# Altium footprint library Altera.PcbLib: 6 footprints (part 2 of 6)
Each footprint in its own frame and in the unit in brackets; x right, y up, seen from the top. Pads: shape width x height; smd on the part's side, far side on the other; paste and mask are expansions set on the pad; w line width, h text height; cw(c..) or ccw(c..) is an arc to the next point about the centre after c.
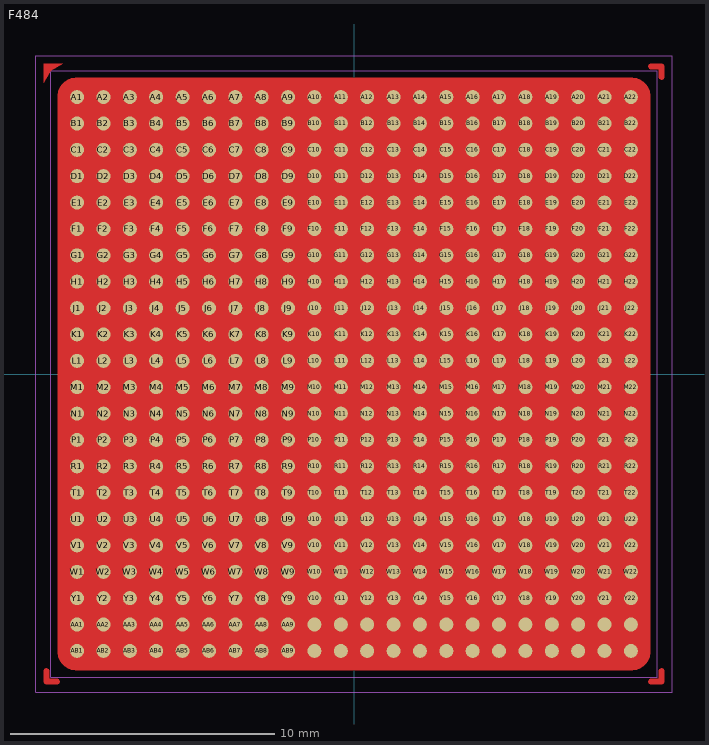
[diagram p1: the footprint, top view; thin cyan lines are the x and y axes]

## F484 [mil]
pads (484):
  round 21 smd mask+2: A1(-413.39,413.39) A2(-374.02,413.39) A3(-334.65,413.39) A4(-295.28,413.39) A5(-255.91,413.39) A6(-216.54,413.39) A7(-177.17,413.39) A8(-137.8,413.39) A9(-98.43,413.39) A10(-59.06,413.39) A11(-19.68,413.39) A12(19.69,413.39) A13(59.06,413.39) A14(98.43,413.39) A15(137.8,413.39) A16(177.17,413.39) A17(216.54,413.39) A18(255.91,413.39) A19(295.28,413.39) A20(334.65,413.39) A21(374.02,413.39) A22(413.39,413.39) AA1(-413.39,-374.02) AA2(-374.02,-374.02) AA3(-334.65,-374.02) AA4(-295.28,-374.02) AA5(-255.91,-374.02) AA6(-216.54,-374.02) AA7(-177.17,-374.02) AA8(-137.8,-374.02) AA9(-98.43,-374.02) AA10(-59.06,-374.02) AA11(-19.68,-374.02) AA12(19.69,-374.02) AA13(59.06,-374.02) AA14(98.43,-374.02) AA15(137.8,-374.02) AA16(177.17,-374.02) AA17(216.54,-374.02) AA18(255.91,-374.02) AA19(295.28,-374.02) AA20(334.65,-374.02) AA21(374.02,-374.02) AA22(413.39,-374.02) AB1(-413.39,-413.39) AB2(-374.02,-413.39) AB3(-334.65,-413.39) AB4(-295.28,-413.39) AB5(-255.91,-413.39) AB6(-216.54,-413.39) AB7(-177.17,-413.39) AB8(-137.8,-413.39) AB9(-98.43,-413.39) AB10(-59.06,-413.39) AB11(-19.68,-413.39) AB12(19.69,-413.39) AB13(59.06,-413.39) AB14(98.43,-413.39) AB15(137.8,-413.39) AB16(177.17,-413.39) AB17(216.54,-413.39) AB18(255.91,-413.39) AB19(295.28,-413.39) AB20(334.65,-413.39) AB21(374.02,-413.39) AB22(413.39,-413.39) B1(-413.39,374.02) B2(-374.02,374.02) B3(-334.65,374.02) B4(-295.28,374.02) B5(-255.91,374.02) B6(-216.54,374.02) B7(-177.17,374.02) B8(-137.8,374.02) B9(-98.43,374.02) B10(-59.06,374.02) B11(-19.68,374.02) B12(19.69,374.02) B13(59.06,374.02) B14(98.43,374.02) B15(137.8,374.02) B16(177.17,374.02) B17(216.54,374.02) B18(255.91,374.02) B19(295.28,374.02) B20(334.65,374.02) B21(374.02,374.02) B22(413.39,374.02) C1(-413.39,334.65) C2(-374.02,334.65) C3(-334.65,334.65) C4(-295.28,334.65) C5(-255.91,334.65) C6(-216.54,334.65) C7(-177.17,334.65) C8(-137.8,334.65) C9(-98.43,334.65) C10(-59.06,334.65) C11(-19.68,334.65) C12(19.69,334.65) C13(59.06,334.65) C14(98.43,334.65) C15(137.8,334.65) C16(177.17,334.65) C17(216.54,334.65) C18(255.91,334.65) C19(295.28,334.65) C20(334.65,334.65) C21(374.02,334.65) C22(413.39,334.65) D1(-413.39,295.28) D2(-374.02,295.28) D3(-334.65,295.28) D4(-295.28,295.28) D5(-255.91,295.28) D6(-216.54,295.28) D7(-177.17,295.28) D8(-137.8,295.28) D9(-98.43,295.28) D10(-59.06,295.28) D11(-19.68,295.28) D12(19.69,295.28) D13(59.06,295.28) D14(98.43,295.28) D15(137.8,295.28) D16(177.17,295.28) D17(216.54,295.28) D18(255.91,295.28) D19(295.28,295.28) D20(334.65,295.28) D21(374.02,295.28) D22(413.39,295.28) E1(-413.39,255.91) E2(-374.02,255.91) E3(-334.65,255.91) E4(-295.28,255.91) E5(-255.91,255.91) E6(-216.54,255.91) E7(-177.17,255.91) E8(-137.8,255.91) E9(-98.43,255.91) E10(-59.06,255.91) E11(-19.68,255.91) E12(19.69,255.91) E13(59.06,255.91) E14(98.43,255.91) E15(137.8,255.91) E16(177.17,255.91) E17(216.54,255.91) E18(255.91,255.91) E19(295.28,255.91) E20(334.65,255.91) E21(374.02,255.91) E22(413.39,255.91) F1(-413.39,216.54) F2(-374.02,216.54) F3(-334.65,216.54) F4(-295.28,216.54) F5(-255.91,216.54) F6(-216.54,216.54) F7(-177.17,216.54) F8(-137.8,216.54) F9(-98.43,216.54) F10(-59.06,216.54) F11(-19.68,216.54) F12(19.69,216.54) F13(59.06,216.54) F14(98.43,216.54) F15(137.8,216.54) F16(177.17,216.54) F17(216.54,216.54) F18(255.91,216.54) F19(295.28,216.54) F20(334.65,216.54) F21(374.02,216.54) F22(413.39,216.54) G1(-413.39,177.17) G2(-374.02,177.17) G3(-334.65,177.17) G4(-295.28,177.17) G5(-255.91,177.17) G6(-216.54,177.17) G7(-177.17,177.17) G8(-137.8,177.17) G9(-98.43,177.17) G10(-59.06,177.17) G11(-19.68,177.17) G12(19.69,177.17) G13(59.06,177.17) G14(98.43,177.17) G15(137.8,177.17) G16(177.17,177.17) G17(216.54,177.17) G18(255.91,177.17) G19(295.28,177.17) G20(334.65,177.17) G21(374.02,177.17) G22(413.39,177.17) H1(-413.39,137.8) H2(-374.02,137.8) H3(-334.65,137.8) H4(-295.28,137.8) H5(-255.91,137.8) H6(-216.54,137.8) H7(-177.17,137.8) H8(-137.8,137.8) H9(-98.43,137.8) H10(-59.06,137.8) H11(-19.68,137.8) H12(19.69,137.8) H13(59.06,137.8) H14(98.43,137.8) H15(137.8,137.8) H16(177.17,137.8) H17(216.54,137.8) H18(255.91,137.8) H19(295.28,137.8) H20(334.65,137.8) H21(374.02,137.8) H22(413.39,137.8) J1(-413.39,98.43) J2(-374.02,98.43) J3(-334.65,98.43) J4(-295.28,98.43) J5(-255.91,98.43) J6(-216.54,98.43) J7(-177.17,98.43) J8(-137.8,98.43) J9(-98.43,98.43) J10(-59.06,98.43) J11(-19.68,98.43) J12(19.69,98.43) J13(59.06,98.43) J14(98.43,98.43) J15(137.8,98.43) J16(177.17,98.43) J17(216.54,98.43) J18(255.91,98.43) J19(295.28,98.43) J20(334.65,98.43) J21(374.02,98.43) J22(413.39,98.43) K1(-413.39,59.06) K2(-374.02,59.06) K3(-334.65,59.06) K4(-295.28,59.06) K5(-255.91,59.06) K6(-216.54,59.06) K7(-177.17,59.06) K8(-137.8,59.06) K9(-98.43,59.06) K10(-59.06,59.06) K11(-19.68,59.06) K12(19.69,59.06) K13(59.06,59.06) K14(98.43,59.06) K15(137.8,59.06) K16(177.17,59.06) K17(216.54,59.06) K18(255.91,59.06) K19(295.28,59.06) K20(334.65,59.06) K21(374.02,59.06) K22(413.39,59.06) L1(-413.39,19.69) L2(-374.02,19.69) L3(-334.65,19.69) L4(-295.28,19.69) L5(-255.91,19.69) L6(-216.54,19.69) L7(-177.17,19.69) L8(-137.8,19.69) L9(-98.43,19.69) L10(-59.06,19.69) L11(-19.68,19.69) L12(19.69,19.69) L13(59.06,19.69) L14(98.43,19.69) L15(137.8,19.69) L16(177.17,19.69) L17(216.54,19.69) L18(255.91,19.69) L19(295.28,19.69) L20(334.65,19.69) L21(374.02,19.69) L22(413.39,19.69) M1(-413.39,-19.68) M2(-374.02,-19.68) M3(-334.65,-19.68) M4(-295.28,-19.68) M5(-255.91,-19.68) M6(-216.54,-19.68) M7(-177.17,-19.68) M8(-137.8,-19.68) M9(-98.43,-19.68) M10(-59.06,-19.68) M11(-19.68,-19.68) M12(19.69,-19.68) M13(59.06,-19.68) M14(98.43,-19.68) M15(137.8,-19.68) M16(177.17,-19.68) M17(216.54,-19.68) M18(255.91,-19.68) M19(295.28,-19.68) M20(334.65,-19.68) M21(374.02,-19.68) M22(413.39,-19.68) N1(-413.39,-59.06) N2(-374.02,-59.06) N3(-334.65,-59.06) N4(-295.28,-59.06) N5(-255.91,-59.06) N6(-216.54,-59.06) N7(-177.17,-59.06) N8(-137.8,-59.06) N9(-98.43,-59.06) N10(-59.06,-59.06) N11(-19.68,-59.06) N12(19.69,-59.06) N13(59.06,-59.06) N14(98.43,-59.06) N15(137.8,-59.06) N16(177.17,-59.06) N17(216.54,-59.06) N18(255.91,-59.06) N19(295.28,-59.06) N20(334.65,-59.06) N21(374.02,-59.06) N22(413.39,-59.06) P1(-413.39,-98.43) P2(-374.02,-98.43) P3(-334.65,-98.43) P4(-295.28,-98.43) P5(-255.91,-98.43) P6(-216.54,-98.43) P7(-177.17,-98.43) P8(-137.8,-98.43) P9(-98.43,-98.43) P10(-59.06,-98.43) P11(-19.68,-98.43) P12(19.69,-98.43) P13(59.06,-98.43) P14(98.43,-98.43) P15(137.8,-98.43) P16(177.17,-98.43) P17(216.54,-98.43) P18(255.91,-98.43) P19(295.28,-98.43) P20(334.65,-98.43) P21(374.02,-98.43) P22(413.39,-98.43) R1(-413.39,-137.8) R2(-374.02,-137.8) R3(-334.65,-137.8) R4(-295.28,-137.8) R5(-255.91,-137.8) R6(-216.54,-137.8) R7(-177.17,-137.8) R8(-137.8,-137.8) R9(-98.43,-137.8) R10(-59.06,-137.8) R11(-19.68,-137.8) R12(19.69,-137.8) R13(59.06,-137.8) R14(98.43,-137.8) R15(137.8,-137.8) R16(177.17,-137.8) R17(216.54,-137.8) R18(255.91,-137.8) R19(295.28,-137.8) R20(334.65,-137.8) R21(374.02,-137.8) R22(413.39,-137.8) T1(-413.39,-177.17) T2(-374.02,-177.17) T3(-334.65,-177.17) T4(-295.28,-177.17) T5(-255.91,-177.17) T6(-216.54,-177.17) T7(-177.17,-177.17) T8(-137.8,-177.17) T9(-98.43,-177.17) T10(-59.06,-177.17) T11(-19.68,-177.17) T12(19.69,-177.17) T13(59.06,-177.17) T14(98.43,-177.17) T15(137.8,-177.17) T16(177.17,-177.17) T17(216.54,-177.17) T18(255.91,-177.17) T19(295.28,-177.17) T20(334.65,-177.17) T21(374.02,-177.17) T22(413.39,-177.17) U1(-413.39,-216.54) U2(-374.02,-216.54) U3(-334.65,-216.54) U4(-295.28,-216.54) U5(-255.91,-216.54) U6(-216.54,-216.54) U7(-177.17,-216.54) U8(-137.8,-216.54) U9(-98.43,-216.54) U10(-59.06,-216.54) U11(-19.68,-216.54) U12(19.69,-216.54) U13(59.06,-216.54) U14(98.43,-216.54) U15(137.8,-216.54) U16(177.17,-216.54) U17(216.54,-216.54) U18(255.91,-216.54) U19(295.28,-216.54) U20(334.65,-216.54) U21(374.02,-216.54) U22(413.39,-216.54) V1(-413.39,-255.91) V2(-374.02,-255.91) V3(-334.65,-255.91) V4(-295.28,-255.91) V5(-255.91,-255.91) V6(-216.54,-255.91) V7(-177.17,-255.91) V8(-137.8,-255.91) V9(-98.43,-255.91) V10(-59.06,-255.91) V11(-19.68,-255.91) V12(19.69,-255.91) V13(59.06,-255.91) V14(98.43,-255.91) V15(137.8,-255.91) V16(177.17,-255.91) V17(216.54,-255.91) V18(255.91,-255.91) V19(295.28,-255.91) V20(334.65,-255.91) V21(374.02,-255.91) V22(413.39,-255.91) W1(-413.39,-295.28) W2(-374.02,-295.28) W3(-334.65,-295.28) W4(-295.28,-295.28) W5(-255.91,-295.28) W6(-216.54,-295.28) W7(-177.17,-295.28) W8(-137.8,-295.28) W9(-98.43,-295.28) W10(-59.06,-295.28) W11(-19.68,-295.28) W12(19.69,-295.28) W13(59.06,-295.28) W14(98.43,-295.28) W15(137.8,-295.28) W16(177.17,-295.28) W17(216.54,-295.28) W18(255.91,-295.28) W19(295.28,-295.28) W20(334.65,-295.28) W21(374.02,-295.28) W22(413.39,-295.28) Y1(-413.39,-334.65) Y2(-374.02,-334.65) Y3(-334.65,-334.65) Y4(-295.28,-334.65) Y5(-255.91,-334.65) Y6(-216.54,-334.65) Y7(-177.17,-334.65) Y8(-137.8,-334.65) Y9(-98.43,-334.65) Y10(-59.06,-334.65) Y11(-19.68,-334.65) Y12(19.69,-334.65) Y13(59.06,-334.65) Y14(98.43,-334.65) Y15(137.8,-334.65) Y16(177.17,-334.65) Y17(216.54,-334.65) Y18(255.91,-334.65) Y19(295.28,-334.65) Y20(334.65,-334.65) Y21(374.02,-334.65) Y22(413.39,-334.65)
Top Layer:
  pour cut-out: 413.39,442.52 -413.39,442.52 -416.26,442.52 -421.88,441.4 -427.19,439.2 -431.96,436.02 -436.02,431.96 -439.2,427.19 -441.4,421.88 -442.52,416.26 -442.52,413.39 -442.52,-413.48 -442.52,-416.34 -441.4,-421.95 -439.21,-427.24 -436.04,-431.99 -431.99,-436.04 -427.24,-439.21 -421.95,-441.4 -416.34,-442.52 -413.48,-442.52 413.39,-442.52 416.26,-442.52 421.88,-441.4 427.19,-439.2 431.96,-436.02 436.02,-431.96 439.2,-427.19 441.4,-421.88 442.52,-416.26 442.52,-413.39 442.52,413.39 442.52,416.26 441.4,421.88 439.2,427.19 436.02,431.96 431.96,436.02 427.19,439.2 421.88,441.4 416.26,442.52
  region: 455.22,443.22 455.22,442.42 455.83,440.95 456.95,439.83 458.42,439.22 459.22,439.22 460.02,439.22 461.49,439.83 462.61,440.95 463.22,442.42 463.22,443.22 463.22,459.22 463.22,460.02 462.61,461.49 461.49,462.61 460.02,463.22 459.22,463.22 443.22,463.22 442.42,463.22 440.95,462.61 439.83,461.49 439.22,460.02 439.22,459.22 439.22,458.42 439.83,456.95 440.95,455.83 442.42,455.22 443.22,455.22 453.22,455.22 453.61,455.18 454.33,454.88 454.88,454.33 455.18,453.61 455.22,453.22
  region: -455.22,-443.22 -455.22,-442.42 -455.83,-440.95 -456.95,-439.83 -458.42,-439.22 -459.22,-439.22 -460.02,-439.22 -461.49,-439.83 -462.61,-440.95 -463.22,-442.42 -463.22,-443.22 -463.22,-459.22 -463.22,-460.02 -462.61,-461.49 -461.49,-462.61 -460.02,-463.22 -459.22,-463.22 -443.22,-463.22 -442.42,-463.22 -440.95,-462.61 -439.83,-461.49 -439.22,-460.02 -439.22,-459.22 -439.22,-458.42 -439.83,-456.95 -440.95,-455.83 -442.42,-455.22 -443.22,-455.22 -453.22,-455.22 -453.61,-455.18 -454.33,-454.88 -454.88,-454.33 -455.18,-453.61 -455.22,-453.22
  region: 443.22,-455.22 442.42,-455.22 440.95,-455.83 439.83,-456.95 439.22,-458.42 439.22,-459.22 439.22,-460.02 439.83,-461.49 440.95,-462.61 442.42,-463.22 443.22,-463.22 459.22,-463.22 460.02,-463.22 461.49,-462.61 462.61,-461.49 463.22,-460.02 463.22,-459.22 463.22,-443.22 463.22,-442.42 462.61,-440.95 461.49,-439.83 460.02,-439.22 459.22,-439.22 458.42,-439.22 456.95,-439.83 455.83,-440.95 455.22,-442.42 455.22,-443.22 455.22,-453.22 455.18,-453.61 454.88,-454.33 454.33,-454.88 453.61,-455.18 453.22,-455.22
  region: -463.22,463.22 -463.22,434.68 -452.76,452.76 -434.68,463.22
Top Designator:
  text ".Designator" at -127.64,-12.5 h35
Top Courtyard:
  lines w1: -475,-475 -475,475 475,475 475,-475 -475,-475
Top Component Outline:
  lines w1: -425.19,-385.74 -385.82,-425.11 ; -425.11,385.82 -385.74,425.19 ; 385.74,-425.19 425.11,-385.82 ; 385.82,425.11 425.19,385.74 ; -452.76,-452.76 -452.76,452.76 452.76,452.76 452.76,-452.76 -452.76,-452.76
3D body: height 21.81, standoff -1.81, extent 401.66,-425.19 425.11,-401.57
3D body: height 21.81, standoff -1.81, extent 362.29,-425.19 385.74,-401.57
3D body: height 21.81, standoff -1.81, extent 322.92,-425.19 346.37,-401.57
3D body: height 21.81, standoff -1.81, extent 283.55,-425.19 307,-401.57
3D body: height 21.81, standoff -1.81, extent 244.18,-425.19 267.63,-401.57
3D body: height 21.81, standoff -1.81, extent 204.81,-425.19 228.26,-401.57
3D body: height 21.81, standoff -1.81, extent 165.44,-425.19 188.89,-401.57
3D body: height 21.81, standoff -1.81, extent 126.07,-425.19 149.52,-401.57
3D body: height 21.81, standoff -1.81, extent 86.7,-425.19 110.15,-401.57
3D body: height 21.81, standoff -1.81, extent 47.33,-425.19 70.78,-401.57
3D body: height 21.81, standoff -1.81, extent 7.96,-425.19 31.41,-401.57
3D body: height 21.81, standoff -1.81, extent -31.41,-425.19 -7.96,-401.57
3D body: height 21.81, standoff -1.81, extent -70.78,-425.19 -47.33,-401.57
3D body: height 21.81, standoff -1.81, extent -110.15,-425.19 -86.7,-401.57
3D body: height 21.81, standoff -1.81, extent -149.52,-425.19 -126.07,-401.57
3D body: height 21.81, standoff -1.81, extent -188.89,-425.19 -165.44,-401.57
3D body: height 21.81, standoff -1.81, extent -228.26,-425.19 -204.81,-401.57
3D body: height 21.81, standoff -1.81, extent -267.63,-425.19 -244.18,-401.57
3D body: height 21.81, standoff -1.81, extent -307,-425.19 -283.55,-401.57
3D body: height 21.81, standoff -1.81, extent -346.37,-425.19 -322.92,-401.57
3D body: height 21.81, standoff -1.81, extent -385.74,-425.19 -362.29,-401.57
3D body: height 21.81, standoff -1.81, extent -425.11,-425.19 -401.66,-401.57
3D body: height 21.81, standoff -1.81, extent 401.66,-385.82 425.11,-362.2
3D body: height 21.81, standoff -1.81, extent 362.29,-385.82 385.74,-362.2
3D body: height 21.81, standoff -1.81, extent 322.92,-385.82 346.37,-362.2
3D body: height 21.81, standoff -1.81, extent 283.55,-385.82 307,-362.2
3D body: height 21.81, standoff -1.81, extent 244.18,-385.82 267.63,-362.2
3D body: height 21.81, standoff -1.81, extent 204.81,-385.82 228.26,-362.2
3D body: height 21.81, standoff -1.81, extent 165.44,-385.82 188.89,-362.2
3D body: height 21.81, standoff -1.81, extent 126.07,-385.82 149.52,-362.2
3D body: height 21.81, standoff -1.81, extent 86.7,-385.82 110.15,-362.2
3D body: height 21.81, standoff -1.81, extent 47.33,-385.82 70.78,-362.2
3D body: height 21.81, standoff -1.81, extent 7.96,-385.82 31.41,-362.2
3D body: height 21.81, standoff -1.81, extent -31.41,-385.82 -7.96,-362.2
3D body: height 21.81, standoff -1.81, extent -70.78,-385.82 -47.33,-362.2
3D body: height 21.81, standoff -1.81, extent -110.15,-385.82 -86.7,-362.2
3D body: height 21.81, standoff -1.81, extent -149.52,-385.82 -126.07,-362.2
3D body: height 21.81, standoff -1.81, extent -188.89,-385.82 -165.44,-362.2
3D body: height 21.81, standoff -1.81, extent -228.26,-385.82 -204.81,-362.2
3D body: height 21.81, standoff -1.81, extent -267.63,-385.82 -244.18,-362.2
3D body: height 21.81, standoff -1.81, extent -307,-385.82 -283.55,-362.2
3D body: height 21.81, standoff -1.81, extent -346.37,-385.82 -322.92,-362.2
3D body: height 21.81, standoff -1.81, extent -385.74,-385.82 -362.29,-362.2
3D body: height 21.81, standoff -1.81, extent -425.11,-385.82 -401.66,-362.2
3D body: height 21.81, standoff -1.81, extent 401.66,-346.45 425.11,-322.83
3D body: height 21.81, standoff -1.81, extent 362.29,-346.45 385.74,-322.83
3D body: height 21.81, standoff -1.81, extent 322.92,-346.45 346.37,-322.83
3D body: height 21.81, standoff -1.81, extent 283.55,-346.45 307,-322.83
3D body: height 21.81, standoff -1.81, extent 244.18,-346.45 267.63,-322.83
3D body: height 21.81, standoff -1.81, extent 204.81,-346.45 228.26,-322.83
3D body: height 21.81, standoff -1.81, extent 165.44,-346.45 188.89,-322.83
3D body: height 21.81, standoff -1.81, extent 126.07,-346.45 149.52,-322.83
3D body: height 21.81, standoff -1.81, extent 86.7,-346.45 110.15,-322.83
3D body: height 21.81, standoff -1.81, extent 47.33,-346.45 70.78,-322.83
3D body: height 21.81, standoff -1.81, extent 7.96,-346.45 31.41,-322.83
3D body: height 21.81, standoff -1.81, extent -31.41,-346.45 -7.96,-322.83
3D body: height 21.81, standoff -1.81, extent -70.78,-346.45 -47.33,-322.83
3D body: height 21.81, standoff -1.81, extent -110.15,-346.45 -86.7,-322.83
3D body: height 21.81, standoff -1.81, extent -149.52,-346.45 -126.07,-322.83
3D body: height 21.81, standoff -1.81, extent -188.89,-346.45 -165.44,-322.83
3D body: height 21.81, standoff -1.81, extent -228.26,-346.45 -204.81,-322.83
3D body: height 21.81, standoff -1.81, extent -267.63,-346.45 -244.18,-322.83
3D body: height 21.81, standoff -1.81, extent -307,-346.45 -283.55,-322.83
3D body: height 21.81, standoff -1.81, extent -346.37,-346.45 -322.92,-322.83
3D body: height 21.81, standoff -1.81, extent -385.74,-346.45 -362.29,-322.83
3D body: height 21.81, standoff -1.81, extent -425.11,-346.45 -401.66,-322.83
3D body: height 21.81, standoff -1.81, extent 401.66,-307.08 425.11,-283.46
3D body: height 21.81, standoff -1.81, extent 362.29,-307.08 385.74,-283.46
3D body: height 21.81, standoff -1.81, extent 322.92,-307.08 346.37,-283.46
3D body: height 21.81, standoff -1.81, extent 283.55,-307.08 307,-283.46
3D body: height 21.81, standoff -1.81, extent 244.18,-307.08 267.63,-283.46
3D body: height 21.81, standoff -1.81, extent 204.81,-307.08 228.26,-283.46
3D body: height 21.81, standoff -1.81, extent 165.44,-307.08 188.89,-283.46
3D body: height 21.81, standoff -1.81, extent 126.07,-307.08 149.52,-283.46
3D body: height 21.81, standoff -1.81, extent 86.7,-307.08 110.15,-283.46
3D body: height 21.81, standoff -1.81, extent 47.33,-307.08 70.78,-283.46
3D body: height 21.81, standoff -1.81, extent 7.96,-307.08 31.41,-283.46
3D body: height 21.81, standoff -1.81, extent -31.41,-307.08 -7.96,-283.46
3D body: height 21.81, standoff -1.81, extent -70.78,-307.08 -47.33,-283.46
3D body: height 21.81, standoff -1.81, extent -110.15,-307.08 -86.7,-283.46
3D body: height 21.81, standoff -1.81, extent -149.52,-307.08 -126.07,-283.46
3D body: height 21.81, standoff -1.81, extent -188.89,-307.08 -165.44,-283.46
3D body: height 21.81, standoff -1.81, extent -228.26,-307.08 -204.81,-283.46
3D body: height 21.81, standoff -1.81, extent -267.63,-307.08 -244.18,-283.46
3D body: height 21.81, standoff -1.81, extent -307,-307.08 -283.55,-283.46
3D body: height 21.81, standoff -1.81, extent -346.37,-307.08 -322.92,-283.46
3D body: height 21.81, standoff -1.81, extent -385.74,-307.08 -362.29,-283.46
3D body: height 21.81, standoff -1.81, extent -425.11,-307.08 -401.66,-283.46
3D body: height 21.81, standoff -1.81, extent 401.66,-267.71 425.11,-244.09
3D body: height 21.81, standoff -1.81, extent 362.29,-267.71 385.74,-244.09
3D body: height 21.81, standoff -1.81, extent 322.92,-267.71 346.37,-244.09
3D body: height 21.81, standoff -1.81, extent 283.55,-267.71 307,-244.09
3D body: height 21.81, standoff -1.81, extent 244.18,-267.71 267.63,-244.09
3D body: height 21.81, standoff -1.81, extent 204.81,-267.71 228.26,-244.09
3D body: height 21.81, standoff -1.81, extent 165.44,-267.71 188.89,-244.09
3D body: height 21.81, standoff -1.81, extent 126.07,-267.71 149.52,-244.09
3D body: height 21.81, standoff -1.81, extent 86.7,-267.71 110.15,-244.09
3D body: height 21.81, standoff -1.81, extent 47.33,-267.71 70.78,-244.09
3D body: height 21.81, standoff -1.81, extent 7.96,-267.71 31.41,-244.09
3D body: height 21.81, standoff -1.81, extent -31.41,-267.71 -7.96,-244.09
3D body: height 21.81, standoff -1.81, extent -70.78,-267.71 -47.33,-244.09
3D body: height 21.81, standoff -1.81, extent -110.15,-267.71 -86.7,-244.09
3D body: height 21.81, standoff -1.81, extent -149.52,-267.71 -126.07,-244.09
3D body: height 21.81, standoff -1.81, extent -188.89,-267.71 -165.44,-244.09
3D body: height 21.81, standoff -1.81, extent -228.26,-267.71 -204.81,-244.09
3D body: height 21.81, standoff -1.81, extent -267.63,-267.71 -244.18,-244.09
3D body: height 21.81, standoff -1.81, extent -307,-267.71 -283.55,-244.09
3D body: height 21.81, standoff -1.81, extent -346.37,-267.71 -322.92,-244.09
3D body: height 21.81, standoff -1.81, extent -385.74,-267.71 -362.29,-244.09
3D body: height 21.81, standoff -1.81, extent -425.11,-267.71 -401.66,-244.09
3D body: height 21.81, standoff -1.81, extent 401.66,-228.34 425.11,-204.72
3D body: height 21.81, standoff -1.81, extent 362.29,-228.34 385.74,-204.72
3D body: height 21.81, standoff -1.81, extent 322.92,-228.34 346.37,-204.72
3D body: height 21.81, standoff -1.81, extent 283.55,-228.34 307,-204.72
3D body: height 21.81, standoff -1.81, extent 244.18,-228.34 267.63,-204.72
3D body: height 21.81, standoff -1.81, extent 204.81,-228.34 228.26,-204.72
3D body: height 21.81, standoff -1.81, extent 165.44,-228.34 188.89,-204.72
3D body: height 21.81, standoff -1.81, extent 126.07,-228.34 149.52,-204.72
3D body: height 21.81, standoff -1.81, extent 86.7,-228.34 110.15,-204.72
3D body: height 21.81, standoff -1.81, extent 47.33,-228.34 70.78,-204.72
3D body: height 21.81, standoff -1.81, extent 7.96,-228.34 31.41,-204.72
3D body: height 21.81, standoff -1.81, extent -31.41,-228.34 -7.96,-204.72
3D body: height 21.81, standoff -1.81, extent -70.78,-228.34 -47.33,-204.72
3D body: height 21.81, standoff -1.81, extent -110.15,-228.34 -86.7,-204.72
3D body: height 21.81, standoff -1.81, extent -149.52,-228.34 -126.07,-204.72
3D body: height 21.81, standoff -1.81, extent -188.89,-228.34 -165.44,-204.72
3D body: height 21.81, standoff -1.81, extent -228.26,-228.34 -204.81,-204.72
3D body: height 21.81, standoff -1.81, extent -267.63,-228.34 -244.18,-204.72
3D body: height 21.81, standoff -1.81, extent -307,-228.34 -283.55,-204.72
3D body: height 21.81, standoff -1.81, extent -346.37,-228.34 -322.92,-204.72
3D body: height 21.81, standoff -1.81, extent -385.74,-228.34 -362.29,-204.72
3D body: height 21.81, standoff -1.81, extent -425.11,-228.34 -401.66,-204.72
3D body: height 21.81, standoff -1.81, extent 401.66,-188.97 425.11,-165.35
3D body: height 21.81, standoff -1.81, extent 362.29,-188.97 385.74,-165.35
3D body: height 21.81, standoff -1.81, extent 322.92,-188.97 346.37,-165.35
3D body: height 21.81, standoff -1.81, extent 283.55,-188.97 307,-165.35
3D body: height 21.81, standoff -1.81, extent 244.18,-188.97 267.63,-165.35
3D body: height 21.81, standoff -1.81, extent 204.81,-188.97 228.26,-165.35
3D body: height 21.81, standoff -1.81, extent 165.44,-188.97 188.89,-165.35
3D body: height 21.81, standoff -1.81, extent 126.07,-188.97 149.52,-165.35
3D body: height 21.81, standoff -1.81, extent 86.7,-188.97 110.15,-165.35
3D body: height 21.81, standoff -1.81, extent 47.33,-188.97 70.78,-165.35
3D body: height 21.81, standoff -1.81, extent 7.96,-188.97 31.41,-165.35
3D body: height 21.81, standoff -1.81, extent -31.41,-188.97 -7.96,-165.35
3D body: height 21.81, standoff -1.81, extent -70.78,-188.97 -47.33,-165.35
3D body: height 21.81, standoff -1.81, extent -110.15,-188.97 -86.7,-165.35
3D body: height 21.81, standoff -1.81, extent -149.52,-188.97 -126.07,-165.35
3D body: height 21.81, standoff -1.81, extent -188.89,-188.97 -165.44,-165.35
3D body: height 21.81, standoff -1.81, extent -228.26,-188.97 -204.81,-165.35
3D body: height 21.81, standoff -1.81, extent -267.63,-188.97 -244.18,-165.35
3D body: height 21.81, standoff -1.81, extent -307,-188.97 -283.55,-165.35
3D body: height 21.81, standoff -1.81, extent -346.37,-188.97 -322.92,-165.35
3D body: height 21.81, standoff -1.81, extent -385.74,-188.97 -362.29,-165.35
3D body: height 21.81, standoff -1.81, extent -425.11,-188.97 -401.66,-165.35
3D body: height 21.81, standoff -1.81, extent 401.66,-149.6 425.11,-125.98
3D body: height 21.81, standoff -1.81, extent 362.29,-149.6 385.74,-125.98
3D body: height 21.81, standoff -1.81, extent 322.92,-149.6 346.37,-125.98
3D body: height 21.81, standoff -1.81, extent 283.55,-149.6 307,-125.98
3D body: height 21.81, standoff -1.81, extent 244.18,-149.6 267.63,-125.98
3D body: height 21.81, standoff -1.81, extent 204.81,-149.6 228.26,-125.98
3D body: height 21.81, standoff -1.81, extent 165.44,-149.6 188.89,-125.98
3D body: height 21.81, standoff -1.81, extent 126.07,-149.6 149.52,-125.98
3D body: height 21.81, standoff -1.81, extent 86.7,-149.6 110.15,-125.98
3D body: height 21.81, standoff -1.81, extent 47.33,-149.6 70.78,-125.98
3D body: height 21.81, standoff -1.81, extent 7.96,-149.6 31.41,-125.98
3D body: height 21.81, standoff -1.81, extent -31.41,-149.6 -7.96,-125.98
3D body: height 21.81, standoff -1.81, extent -70.78,-149.6 -47.33,-125.98
3D body: height 21.81, standoff -1.81, extent -110.15,-149.6 -86.7,-125.98
3D body: height 21.81, standoff -1.81, extent -149.52,-149.6 -126.07,-125.98
3D body: height 21.81, standoff -1.81, extent -188.89,-149.6 -165.44,-125.98
3D body: height 21.81, standoff -1.81, extent -228.26,-149.6 -204.81,-125.98
3D body: height 21.81, standoff -1.81, extent -267.63,-149.6 -244.18,-125.98
3D body: height 21.81, standoff -1.81, extent -307,-149.6 -283.55,-125.98
3D body: height 21.81, standoff -1.81, extent -346.37,-149.6 -322.92,-125.98
3D body: height 21.81, standoff -1.81, extent -385.74,-149.6 -362.29,-125.98
3D body: height 21.81, standoff -1.81, extent -425.11,-149.6 -401.66,-125.98
3D body: height 21.81, standoff -1.81, extent 401.66,-110.23 425.11,-86.61
3D body: height 21.81, standoff -1.81, extent 362.29,-110.23 385.74,-86.61
3D body: height 21.81, standoff -1.81, extent 322.92,-110.23 346.37,-86.61
3D body: height 21.81, standoff -1.81, extent 283.55,-110.23 307,-86.61
3D body: height 21.81, standoff -1.81, extent 244.18,-110.23 267.63,-86.61
3D body: height 21.81, standoff -1.81, extent 204.81,-110.23 228.26,-86.61
3D body: height 21.81, standoff -1.81, extent 165.44,-110.23 188.89,-86.61
3D body: height 21.81, standoff -1.81, extent 126.07,-110.23 149.52,-86.61
3D body: height 21.81, standoff -1.81, extent 86.7,-110.23 110.15,-86.61
3D body: height 21.81, standoff -1.81, extent 47.33,-110.23 70.78,-86.61
3D body: height 21.81, standoff -1.81, extent 7.96,-110.23 31.41,-86.61
3D body: height 21.81, standoff -1.81, extent -31.41,-110.23 -7.96,-86.61
3D body: height 21.81, standoff -1.81, extent -70.78,-110.23 -47.33,-86.61
3D body: height 21.81, standoff -1.81, extent -110.15,-110.23 -86.7,-86.61
3D body: height 21.81, standoff -1.81, extent -149.52,-110.23 -126.07,-86.61
3D body: height 21.81, standoff -1.81, extent -188.89,-110.23 -165.44,-86.61
3D body: height 21.81, standoff -1.81, extent -228.26,-110.23 -204.81,-86.61
3D body: height 21.81, standoff -1.81, extent -267.63,-110.23 -244.18,-86.61
3D body: height 21.81, standoff -1.81, extent -307,-110.23 -283.55,-86.61
3D body: height 21.81, standoff -1.81, extent -346.37,-110.23 -322.92,-86.61
3D body: height 21.81, standoff -1.81, extent -385.74,-110.23 -362.29,-86.61
3D body: height 21.81, standoff -1.81, extent -425.11,-110.23 -401.66,-86.61
3D body: height 21.81, standoff -1.81, extent 401.66,-70.86 425.11,-47.24
3D body: height 21.81, standoff -1.81, extent 362.29,-70.86 385.74,-47.24
3D body: height 21.81, standoff -1.81, extent 322.92,-70.86 346.37,-47.24
3D body: height 21.81, standoff -1.81, extent 283.55,-70.86 307,-47.24
3D body: height 21.81, standoff -1.81, extent 244.18,-70.86 267.63,-47.24
3D body: height 21.81, standoff -1.81, extent 204.81,-70.86 228.26,-47.24
3D body: height 21.81, standoff -1.81, extent 165.44,-70.86 188.89,-47.24
3D body: height 21.81, standoff -1.81, extent 126.07,-70.86 149.52,-47.24
3D body: height 21.81, standoff -1.81, extent 86.7,-70.86 110.15,-47.24
3D body: height 21.81, standoff -1.81, extent 47.33,-70.86 70.78,-47.24
3D body: height 21.81, standoff -1.81, extent 7.96,-70.86 31.41,-47.24
3D body: height 21.81, standoff -1.81, extent -31.41,-70.86 -7.96,-47.24
3D body: height 21.81, standoff -1.81, extent -70.78,-70.86 -47.33,-47.24
3D body: height 21.81, standoff -1.81, extent -110.15,-70.86 -86.7,-47.24
3D body: height 21.81, standoff -1.81, extent -149.52,-70.86 -126.07,-47.24
3D body: height 21.81, standoff -1.81, extent -188.89,-70.86 -165.44,-47.24
3D body: height 21.81, standoff -1.81, extent -228.26,-70.86 -204.81,-47.24
3D body: height 21.81, standoff -1.81, extent -267.63,-70.86 -244.18,-47.24
3D body: height 21.81, standoff -1.81, extent -307,-70.86 -283.55,-47.24
3D body: height 21.81, standoff -1.81, extent -346.37,-70.86 -322.92,-47.24
3D body: height 21.81, standoff -1.81, extent -385.74,-70.86 -362.29,-47.24
3D body: height 21.81, standoff -1.81, extent -425.11,-70.86 -401.66,-47.24
3D body: height 21.81, standoff -1.81, extent 401.66,-31.49 425.11,-7.87
3D body: height 21.81, standoff -1.81, extent 362.29,-31.49 385.74,-7.87
3D body: height 21.81, standoff -1.81, extent 322.92,-31.49 346.37,-7.87
3D body: height 21.81, standoff -1.81, extent 283.55,-31.49 307,-7.87
3D body: height 21.81, standoff -1.81, extent 244.18,-31.49 267.63,-7.87
3D body: height 21.81, standoff -1.81, extent 204.81,-31.49 228.26,-7.87
3D body: height 21.81, standoff -1.81, extent 165.44,-31.49 188.89,-7.87
3D body: height 21.81, standoff -1.81, extent 126.07,-31.49 149.52,-7.87
3D body: height 21.81, standoff -1.81, extent 86.7,-31.49 110.15,-7.87
3D body: height 21.81, standoff -1.81, extent 47.33,-31.49 70.78,-7.87
3D body: height 21.81, standoff -1.81, extent 7.96,-31.49 31.41,-7.87
3D body: height 21.81, standoff -1.81, extent -31.41,-31.49 -7.96,-7.87
3D body: height 21.81, standoff -1.81, extent -70.78,-31.49 -47.33,-7.87
3D body: height 21.81, standoff -1.81, extent -110.15,-31.49 -86.7,-7.87
3D body: height 21.81, standoff -1.81, extent -149.52,-31.49 -126.07,-7.87
3D body: height 21.81, standoff -1.81, extent -188.89,-31.49 -165.44,-7.87
3D body: height 21.81, standoff -1.81, extent -228.26,-31.49 -204.81,-7.87
3D body: height 21.81, standoff -1.81, extent -267.63,-31.49 -244.18,-7.87
3D body: height 21.81, standoff -1.81, extent -307,-31.49 -283.55,-7.87
3D body: height 21.81, standoff -1.81, extent -346.37,-31.49 -322.92,-7.87
3D body: height 21.81, standoff -1.81, extent -385.74,-31.49 -362.29,-7.87
3D body: height 21.81, standoff -1.81, extent -425.11,-31.49 -401.66,-7.87
3D body: height 21.81, standoff -1.81, extent 401.66,7.88 425.11,31.5
3D body: height 21.81, standoff -1.81, extent 362.29,7.88 385.74,31.5
3D body: height 21.81, standoff -1.81, extent 322.92,7.88 346.37,31.5
3D body: height 21.81, standoff -1.81, extent 283.55,7.88 307,31.5
3D body: height 21.81, standoff -1.81, extent 244.18,7.88 267.63,31.5
3D body: height 21.81, standoff -1.81, extent 204.81,7.88 228.26,31.5
3D body: height 21.81, standoff -1.81, extent 165.44,7.88 188.89,31.5
3D body: height 21.81, standoff -1.81, extent 126.07,7.88 149.52,31.5
3D body: height 21.81, standoff -1.81, extent 86.7,7.88 110.15,31.5
3D body: height 21.81, standoff -1.81, extent 47.33,7.88 70.78,31.5
3D body: height 21.81, standoff -1.81, extent 7.96,7.88 31.41,31.5
3D body: height 21.81, standoff -1.81, extent -31.41,7.88 -7.96,31.5
3D body: height 21.81, standoff -1.81, extent -70.78,7.88 -47.33,31.5
3D body: height 21.81, standoff -1.81, extent -110.15,7.88 -86.7,31.5
3D body: height 21.81, standoff -1.81, extent -149.52,7.88 -126.07,31.5
3D body: height 21.81, standoff -1.81, extent -188.89,7.88 -165.44,31.5
3D body: height 21.81, standoff -1.81, extent -228.26,7.88 -204.81,31.5
3D body: height 21.81, standoff -1.81, extent -267.63,7.88 -244.18,31.5
3D body: height 21.81, standoff -1.81, extent -307,7.88 -283.55,31.5
3D body: height 21.81, standoff -1.81, extent -346.37,7.88 -322.92,31.5
3D body: height 21.81, standoff -1.81, extent -385.74,7.88 -362.29,31.5
3D body: height 21.81, standoff -1.81, extent -425.11,7.88 -401.66,31.5
3D body: height 21.81, standoff -1.81, extent 401.66,47.25 425.11,70.87
3D body: height 21.81, standoff -1.81, extent 362.29,47.25 385.74,70.87
3D body: height 21.81, standoff -1.81, extent 322.92,47.25 346.37,70.87
3D body: height 21.81, standoff -1.81, extent 283.55,47.25 307,70.87
3D body: height 21.81, standoff -1.81, extent 244.18,47.25 267.63,70.87
3D body: height 21.81, standoff -1.81, extent 204.81,47.25 228.26,70.87
3D body: height 21.81, standoff -1.81, extent 165.44,47.25 188.89,70.87
3D body: height 21.81, standoff -1.81, extent 126.07,47.25 149.52,70.87
3D body: height 21.81, standoff -1.81, extent 86.7,47.25 110.15,70.87
3D body: height 21.81, standoff -1.81, extent 47.33,47.25 70.78,70.87
3D body: height 21.81, standoff -1.81, extent 7.96,47.25 31.41,70.87
3D body: height 21.81, standoff -1.81, extent -31.41,47.25 -7.96,70.87
3D body: height 21.81, standoff -1.81, extent -70.78,47.25 -47.33,70.87
3D body: height 21.81, standoff -1.81, extent -110.15,47.25 -86.7,70.87
3D body: height 21.81, standoff -1.81, extent -149.52,47.25 -126.07,70.87
3D body: height 21.81, standoff -1.81, extent -188.89,47.25 -165.44,70.87
3D body: height 21.81, standoff -1.81, extent -228.26,47.25 -204.81,70.87
3D body: height 21.81, standoff -1.81, extent -267.63,47.25 -244.18,70.87
3D body: height 21.81, standoff -1.81, extent -307,47.25 -283.55,70.87
3D body: height 21.81, standoff -1.81, extent -346.37,47.25 -322.92,70.87
3D body: height 21.81, standoff -1.81, extent -385.74,47.25 -362.29,70.87
3D body: height 21.81, standoff -1.81, extent -425.11,47.25 -401.66,70.87
3D body: height 21.81, standoff -1.81, extent 401.66,86.62 425.11,110.24
3D body: height 21.81, standoff -1.81, extent 362.29,86.62 385.74,110.24
3D body: height 21.81, standoff -1.81, extent 322.92,86.62 346.37,110.24
3D body: height 21.81, standoff -1.81, extent 283.55,86.62 307,110.24
3D body: height 21.81, standoff -1.81, extent 244.18,86.62 267.63,110.24
3D body: height 21.81, standoff -1.81, extent 204.81,86.62 228.26,110.24
3D body: height 21.81, standoff -1.81, extent 165.44,86.62 188.89,110.24
3D body: height 21.81, standoff -1.81, extent 126.07,86.62 149.52,110.24
3D body: height 21.81, standoff -1.81, extent 86.7,86.62 110.15,110.24
3D body: height 21.81, standoff -1.81, extent 47.33,86.62 70.78,110.24
3D body: height 21.81, standoff -1.81, extent 7.96,86.62 31.41,110.24
3D body: height 21.81, standoff -1.81, extent -31.41,86.62 -7.96,110.24
3D body: height 21.81, standoff -1.81, extent -70.78,86.62 -47.33,110.24
3D body: height 21.81, standoff -1.81, extent -110.15,86.62 -86.7,110.24
3D body: height 21.81, standoff -1.81, extent -149.52,86.62 -126.07,110.24
3D body: height 21.81, standoff -1.81, extent -188.89,86.62 -165.44,110.24
3D body: height 21.81, standoff -1.81, extent -228.26,86.62 -204.81,110.24
3D body: height 21.81, standoff -1.81, extent -267.63,86.62 -244.18,110.24
3D body: height 21.81, standoff -1.81, extent -307,86.62 -283.55,110.24
3D body: height 21.81, standoff -1.81, extent -346.37,86.62 -322.92,110.24
3D body: height 21.81, standoff -1.81, extent -385.74,86.62 -362.29,110.24
3D body: height 21.81, standoff -1.81, extent -425.11,86.62 -401.66,110.24
3D body: height 21.81, standoff -1.81, extent 401.66,125.99 425.11,149.61
3D body: height 21.81, standoff -1.81, extent 362.29,125.99 385.74,149.61
3D body: height 21.81, standoff -1.81, extent 322.92,125.99 346.37,149.61
3D body: height 21.81, standoff -1.81, extent 283.55,125.99 307,149.61
3D body: height 21.81, standoff -1.81, extent 244.18,125.99 267.63,149.61
3D body: height 21.81, standoff -1.81, extent 204.81,125.99 228.26,149.61
3D body: height 21.81, standoff -1.81, extent 165.44,125.99 188.89,149.61
3D body: height 21.81, standoff -1.81, extent 126.07,125.99 149.52,149.61
3D body: height 21.81, standoff -1.81, extent 86.7,125.99 110.15,149.61
3D body: height 21.81, standoff -1.81, extent 47.33,125.99 70.78,149.61
3D body: height 21.81, standoff -1.81, extent 7.96,125.99 31.41,149.61
3D body: height 21.81, standoff -1.81, extent -31.41,125.99 -7.96,149.61
3D body: height 21.81, standoff -1.81, extent -70.78,125.99 -47.33,149.61
3D body: height 21.81, standoff -1.81, extent -110.15,125.99 -86.7,149.61
3D body: height 21.81, standoff -1.81, extent -149.52,125.99 -126.07,149.61
3D body: height 21.81, standoff -1.81, extent -188.89,125.99 -165.44,149.61
3D body: height 21.81, standoff -1.81, extent -228.26,125.99 -204.81,149.61
3D body: height 21.81, standoff -1.81, extent -267.63,125.99 -244.18,149.61
3D body: height 21.81, standoff -1.81, extent -307,125.99 -283.55,149.61
3D body: height 21.81, standoff -1.81, extent -346.37,125.99 -322.92,149.61
3D body: height 21.81, standoff -1.81, extent -385.74,125.99 -362.29,149.61
3D body: height 21.81, standoff -1.81, extent -425.11,125.99 -401.66,149.61
3D body: height 21.81, standoff -1.81, extent 401.66,165.36 425.11,188.98
3D body: height 21.81, standoff -1.81, extent 362.29,165.36 385.74,188.98
3D body: height 21.81, standoff -1.81, extent 322.92,165.36 346.37,188.98
3D body: height 21.81, standoff -1.81, extent 283.55,165.36 307,188.98
3D body: height 21.81, standoff -1.81, extent 244.18,165.36 267.63,188.98
3D body: height 21.81, standoff -1.81, extent 204.81,165.36 228.26,188.98
3D body: height 21.81, standoff -1.81, extent 165.44,165.36 188.89,188.98
3D body: height 21.81, standoff -1.81, extent 126.07,165.36 149.52,188.98
3D body: height 21.81, standoff -1.81, extent 86.7,165.36 110.15,188.98
3D body: height 21.81, standoff -1.81, extent 47.33,165.36 70.78,188.98
3D body: height 21.81, standoff -1.81, extent 7.96,165.36 31.41,188.98
3D body: height 21.81, standoff -1.81, extent -31.41,165.36 -7.96,188.98
3D body: height 21.81, standoff -1.81, extent -70.78,165.36 -47.33,188.98
3D body: height 21.81, standoff -1.81, extent -110.15,165.36 -86.7,188.98
3D body: height 21.81, standoff -1.81, extent -149.52,165.36 -126.07,188.98
3D body: height 21.81, standoff -1.81, extent -188.89,165.36 -165.44,188.98
3D body: height 21.81, standoff -1.81, extent -228.26,165.36 -204.81,188.98
3D body: height 21.81, standoff -1.81, extent -267.63,165.36 -244.18,188.98
3D body: height 21.81, standoff -1.81, extent -307,165.36 -283.55,188.98
3D body: height 21.81, standoff -1.81, extent -346.37,165.36 -322.92,188.98
3D body: height 21.81, standoff -1.81, extent -385.74,165.36 -362.29,188.98
3D body: height 21.81, standoff -1.81, extent -425.11,165.36 -401.66,188.98
3D body: height 21.81, standoff -1.81, extent 401.66,204.73 425.11,228.35
3D body: height 21.81, standoff -1.81, extent 362.29,204.73 385.74,228.35
3D body: height 21.81, standoff -1.81, extent 322.92,204.73 346.37,228.35
3D body: height 21.81, standoff -1.81, extent 283.55,204.73 307,228.35
3D body: height 21.81, standoff -1.81, extent 244.18,204.73 267.63,228.35
3D body: height 21.81, standoff -1.81, extent 204.81,204.73 228.26,228.35
3D body: height 21.81, standoff -1.81, extent 165.44,204.73 188.89,228.35
3D body: height 21.81, standoff -1.81, extent 126.07,204.73 149.52,228.35
3D body: height 21.81, standoff -1.81, extent 86.7,204.73 110.15,228.35
3D body: height 21.81, standoff -1.81, extent 47.33,204.73 70.78,228.35
3D body: height 21.81, standoff -1.81, extent 7.96,204.73 31.41,228.35
3D body: height 21.81, standoff -1.81, extent -31.41,204.73 -7.96,228.35
3D body: height 21.81, standoff -1.81, extent -70.78,204.73 -47.33,228.35
3D body: height 21.81, standoff -1.81, extent -110.15,204.73 -86.7,228.35
3D body: height 21.81, standoff -1.81, extent -149.52,204.73 -126.07,228.35
3D body: height 21.81, standoff -1.81, extent -188.89,204.73 -165.44,228.35
3D body: height 21.81, standoff -1.81, extent -228.26,204.73 -204.81,228.35
3D body: height 21.81, standoff -1.81, extent -267.63,204.73 -244.18,228.35
3D body: height 21.81, standoff -1.81, extent -307,204.73 -283.55,228.35
3D body: height 21.81, standoff -1.81, extent -346.37,204.73 -322.92,228.35
3D body: height 21.81, standoff -1.81, extent -385.74,204.73 -362.29,228.35
3D body: height 21.81, standoff -1.81, extent -425.11,204.73 -401.66,228.35
3D body: height 21.81, standoff -1.81, extent 401.66,244.1 425.11,267.72
3D body: height 21.81, standoff -1.81, extent 362.29,244.1 385.74,267.72
3D body: height 21.81, standoff -1.81, extent 322.92,244.1 346.37,267.72
3D body: height 21.81, standoff -1.81, extent 283.55,244.1 307,267.72
3D body: height 21.81, standoff -1.81, extent 244.18,244.1 267.63,267.72
3D body: height 21.81, standoff -1.81, extent 204.81,244.1 228.26,267.72
3D body: height 21.81, standoff -1.81, extent 165.44,244.1 188.89,267.72
3D body: height 21.81, standoff -1.81, extent 126.07,244.1 149.52,267.72
3D body: height 21.81, standoff -1.81, extent 86.7,244.1 110.15,267.72
3D body: height 21.81, standoff -1.81, extent 47.33,244.1 70.78,267.72
3D body: height 21.81, standoff -1.81, extent 7.96,244.1 31.41,267.72
3D body: height 21.81, standoff -1.81, extent -31.41,244.1 -7.96,267.72
3D body: height 21.81, standoff -1.81, extent -70.78,244.1 -47.33,267.72
3D body: height 21.81, standoff -1.81, extent -110.15,244.1 -86.7,267.72
3D body: height 21.81, standoff -1.81, extent -149.52,244.1 -126.07,267.72
3D body: height 21.81, standoff -1.81, extent -188.89,244.1 -165.44,267.72
3D body: height 21.81, standoff -1.81, extent -228.26,244.1 -204.81,267.72
3D body: height 21.81, standoff -1.81, extent -267.63,244.1 -244.18,267.72
3D body: height 21.81, standoff -1.81, extent -307,244.1 -283.55,267.72
3D body: height 21.81, standoff -1.81, extent -346.37,244.1 -322.92,267.72
3D body: height 21.81, standoff -1.81, extent -385.74,244.1 -362.29,267.72
3D body: height 21.81, standoff -1.81, extent -425.11,244.1 -401.66,267.72
3D body: height 21.81, standoff -1.81, extent 401.66,283.47 425.11,307.09
3D body: height 21.81, standoff -1.81, extent 362.29,283.47 385.74,307.09
3D body: height 21.81, standoff -1.81, extent 322.92,283.47 346.37,307.09
3D body: height 21.81, standoff -1.81, extent 283.55,283.47 307,307.09
3D body: height 21.81, standoff -1.81, extent 244.18,283.47 267.63,307.09
3D body: height 21.81, standoff -1.81, extent 204.81,283.47 228.26,307.09
3D body: height 21.81, standoff -1.81, extent 165.44,283.47 188.89,307.09
3D body: height 21.81, standoff -1.81, extent 126.07,283.47 149.52,307.09
3D body: height 21.81, standoff -1.81, extent 86.7,283.47 110.15,307.09
3D body: height 21.81, standoff -1.81, extent 47.33,283.47 70.78,307.09
3D body: height 21.81, standoff -1.81, extent 7.96,283.47 31.41,307.09
3D body: height 21.81, standoff -1.81, extent -31.41,283.47 -7.96,307.09
3D body: height 21.81, standoff -1.81, extent -70.78,283.47 -47.33,307.09
3D body: height 21.81, standoff -1.81, extent -110.15,283.47 -86.7,307.09
3D body: height 21.81, standoff -1.81, extent -149.52,283.47 -126.07,307.09
3D body: height 21.81, standoff -1.81, extent -188.89,283.47 -165.44,307.09
3D body: height 21.81, standoff -1.81, extent -228.26,283.47 -204.81,307.09
3D body: height 21.81, standoff -1.81, extent -267.63,283.47 -244.18,307.09
3D body: height 21.81, standoff -1.81, extent -307,283.47 -283.55,307.09
3D body: height 21.81, standoff -1.81, extent -346.37,283.47 -322.92,307.09
3D body: height 21.81, standoff -1.81, extent -385.74,283.47 -362.29,307.09
3D body: height 21.81, standoff -1.81, extent -425.11,283.47 -401.66,307.09
3D body: height 21.81, standoff -1.81, extent 401.66,322.84 425.11,346.46
3D body: height 21.81, standoff -1.81, extent 362.29,322.84 385.74,346.46
3D body: height 21.81, standoff -1.81, extent 322.92,322.84 346.37,346.46
3D body: height 21.81, standoff -1.81, extent 283.55,322.84 307,346.46
3D body: height 21.81, standoff -1.81, extent 244.18,322.84 267.63,346.46
3D body: height 21.81, standoff -1.81, extent 204.81,322.84 228.26,346.46
3D body: height 21.81, standoff -1.81, extent 165.44,322.84 188.89,346.46
3D body: height 21.81, standoff -1.81, extent 126.07,322.84 149.52,346.46
3D body: height 21.81, standoff -1.81, extent 86.7,322.84 110.15,346.46
3D body: height 21.81, standoff -1.81, extent 47.33,322.84 70.78,346.46
3D body: height 21.81, standoff -1.81, extent 7.96,322.84 31.41,346.46
3D body: height 21.81, standoff -1.81, extent -31.41,322.84 -7.96,346.46
3D body: height 21.81, standoff -1.81, extent -70.78,322.84 -47.33,346.46
3D body: height 21.81, standoff -1.81, extent -110.15,322.84 -86.7,346.46
3D body: height 21.81, standoff -1.81, extent -149.52,322.84 -126.07,346.46
3D body: height 21.81, standoff -1.81, extent -188.89,322.84 -165.44,346.46
3D body: height 21.81, standoff -1.81, extent -228.26,322.84 -204.81,346.46
3D body: height 21.81, standoff -1.81, extent -267.63,322.84 -244.18,346.46
3D body: height 21.81, standoff -1.81, extent -307,322.84 -283.55,346.46
3D body: height 21.81, standoff -1.81, extent -346.37,322.84 -322.92,346.46
3D body: height 21.81, standoff -1.81, extent -385.74,322.84 -362.29,346.46
3D body: height 21.81, standoff -1.81, extent -425.11,322.84 -401.66,346.46
3D body: height 21.81, standoff -1.81, extent 401.66,362.21 425.11,385.83
3D body: height 21.81, standoff -1.81, extent 362.29,362.21 385.74,385.83
3D body: height 21.81, standoff -1.81, extent 322.92,362.21 346.37,385.83
3D body: height 21.81, standoff -1.81, extent 283.55,362.21 307,385.83
3D body: height 21.81, standoff -1.81, extent 244.18,362.21 267.63,385.83
3D body: height 21.81, standoff -1.81, extent 204.81,362.21 228.26,385.83
3D body: height 21.81, standoff -1.81, extent 165.44,362.21 188.89,385.83
3D body: height 21.81, standoff -1.81, extent 126.07,362.21 149.52,385.83
3D body: height 21.81, standoff -1.81, extent 86.7,362.21 110.15,385.83
3D body: height 21.81, standoff -1.81, extent 47.33,362.21 70.78,385.83
3D body: height 21.81, standoff -1.81, extent 7.96,362.21 31.41,385.83
3D body: height 21.81, standoff -1.81, extent -31.41,362.21 -7.96,385.83
3D body: height 21.81, standoff -1.81, extent -70.78,362.21 -47.33,385.83
3D body: height 21.81, standoff -1.81, extent -110.15,362.21 -86.7,385.83
3D body: height 21.81, standoff -1.81, extent -149.52,362.21 -126.07,385.83
3D body: height 21.81, standoff -1.81, extent -188.89,362.21 -165.44,385.83
3D body: height 21.81, standoff -1.81, extent -228.26,362.21 -204.81,385.83
3D body: height 21.81, standoff -1.81, extent -267.63,362.21 -244.18,385.83
3D body: height 21.81, standoff -1.81, extent -307,362.21 -283.55,385.83
3D body: height 21.81, standoff -1.81, extent -346.37,362.21 -322.92,385.83
3D body: height 21.81, standoff -1.81, extent -385.74,362.21 -362.29,385.83
3D body: height 21.81, standoff -1.81, extent -425.11,362.21 -401.66,385.83
3D body: height 21.81, standoff -1.81, extent 401.66,401.58 425.11,425.2
3D body: height 21.81, standoff -1.81, extent 362.29,401.58 385.74,425.2
3D body: height 21.81, standoff -1.81, extent 322.92,401.58 346.37,425.2
3D body: height 21.81, standoff -1.81, extent 283.55,401.58 307,425.2
3D body: height 21.81, standoff -1.81, extent 244.18,401.58 267.63,425.2
3D body: height 21.81, standoff -1.81, extent 204.81,401.58 228.26,425.2
3D body: height 21.81, standoff -1.81, extent 165.44,401.58 188.89,425.2
3D body: height 21.81, standoff -1.81, extent 126.07,401.58 149.52,425.2
3D body: height 21.81, standoff -1.81, extent 86.7,401.58 110.15,425.2
3D body: height 21.81, standoff -1.81, extent 47.33,401.58 70.78,425.2
3D body: height 21.81, standoff -1.81, extent 7.96,401.58 31.41,425.2
3D body: height 21.81, standoff -1.81, extent -31.41,401.58 -7.96,425.2
3D body: height 21.81, standoff -1.81, extent -70.78,401.58 -47.33,425.2
3D body: height 21.81, standoff -1.81, extent -110.15,401.58 -86.7,425.2
3D body: height 21.81, standoff -1.81, extent -149.52,401.58 -126.07,425.2
3D body: height 21.81, standoff -1.81, extent -188.89,401.58 -165.44,425.2
3D body: height 21.81, standoff -1.81, extent -228.26,401.58 -204.81,425.2
3D body: height 21.81, standoff -1.81, extent -267.63,401.58 -244.18,425.2
3D body: height 21.81, standoff -1.81, extent -307,401.58 -283.55,425.2
3D body: height 21.81, standoff -1.81, extent -346.37,401.58 -322.92,425.2
3D body: height 21.81, standoff -1.81, extent -385.74,401.58 -362.29,425.2
3D body: height 21.81, standoff -1.81, extent -425.11,401.58 -401.66,425.2
3D body: height 40, standoff 35, extent -442.52,412.52 -412.52,442.52
3D body: height 72.83, standoff 31.5, extent -425.11,-425.12 425.2,425.19
3D body: height 39.37, standoff 19.68, extent -452.75,-452.76 452.76,452.76